# Altium integrated library Linear Technology PMIC-Switching Reg LTC1174-LTC3901.IntLib: 2647 symbols (part 190 of 310)
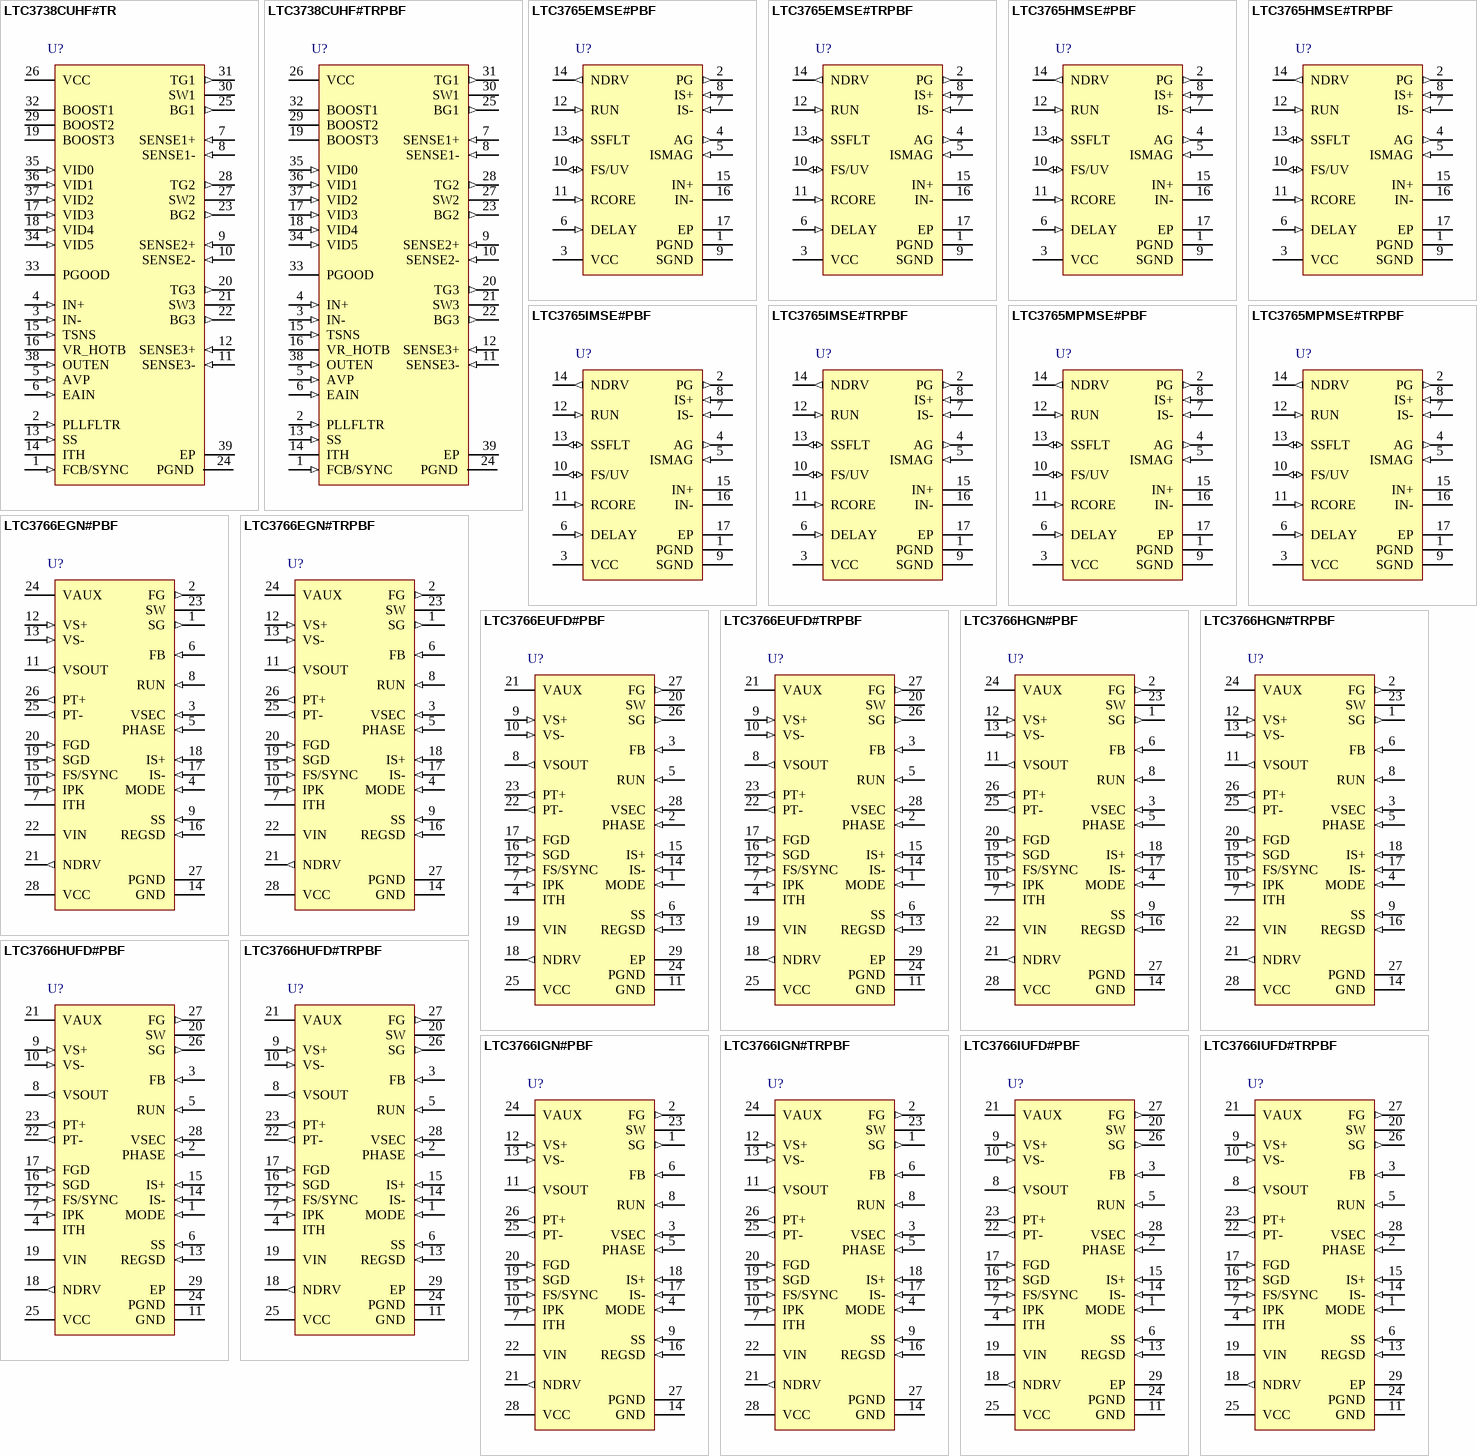
[diagram p325: symbols LTC3738CUHF#TR to LTC3766IUFD#TRPBF]

## LTC3765HMSE#TRPBF
designator U?
Active Clamp Forward Controller and Gate Driver, 16-pin SOP (MSE-16-EDP), -40 to 150 degC, Pb-Free, Tape and Reel; Manufacturer: Linear Technology; PartNumber: LTC3765HMSE#TRPBF; Number of Outputs: 1; PackageReference: MSE-16; PackageDescription: 16-Pin Plastic MSOP, Exposed Die Pad, Body 4.039 x 3 mm, Pitch 0.5 mm; Supplier 1: Digi-Key; Supplier Part Number 1: LTC3765HMSE#TRPBF-ND; RoHS: TRUE
footprint LT-MSE-16-EDP_N (SOP, 16-Leads, Body 4.1x3.1mm, Pitch 0.5mm, Thermal Pad 2.95x1.76mm, IPC Medium Density)
footprint LT-MSE-16-EDP_L (SOP, 16-Leads, Body 4.1x3.1mm, Pitch 0.5mm, Thermal Pad 2.95x1.76mm, IPC High Density)
footprint LT-MSE-16-EDP_M (SOP, 16-Leads, Body 4.1x3.1mm, Pitch 0.5mm, Thermal Pad 2.95x1.76mm, IPC Low Density)
pins: 1 PGND (power) "Power Ground. Ground return for the high current gate drivers.", 2 PG (out) "Primary Gate. Gate drive for the primary switch NMOS.", 3 VCC (power) "Main Supply Pin. A ceramic bypass capacitor should be tied between this pin and ground.", 4 AG (out) "Active Gate. Gate drive for the active clamp PMOS. This drive output is “in phase?with the PG output. Connect to the gate of a PMOS through a capacitive level-shift circuit.", 5 ISMAG (in) "Magnetizing Current Sense Pin. Connect to a current sense resistor in series with the source of the active clamp PMOS. This pin limits the magnetizing current of the main transformer to prevent core saturation when the (See Datasheet)", 6 DELAY (in) "Primary Gate Rising Delay Adjustment. A resistor from this pin to ground sets the AG rising to PG rising dead time, which is critical for optimizing efficiency.", 7 IS- (in) "Inputs to the Overcurrent Comparator. Connect across a current sense resistor in series with the source of the primary NMOS.", 8 IS+ (in) "Inputs to the Overcurrent Comparator. Connect across a current sense resistor in series with the source of the primary NMOS.", 9 SGND (power) "Signal Ground. The exposed pad metal of the package provides good thermal contact to the printed circuit board. It must be soldered to a ground plane for rated thermal performance.", 10 FS/UV (io) "Oscillator Frequency Set and Undervoltage Indicator. A resistor to ground sets the switching frequency during start-up. When the RUN pin is low, the VCC supply is undervoltage, or the overtemperature protection is active, a (See Datasheet)", 11 RCORE (in) "Transformer Core Saturation Limit. A resistor from RCORE to ground proportional to transformer core parameters internally replicates the magnetizing current slope when the primary NMOS is on. This slope in combination with (See Datasheet)", 12 RUN (in) "Run Control and Undervoltage Lockout (UVLO). Connect to a resistor divider to monitor the input voltage VIN, which is required for proper operation of the Direct Flux Limit. Converter operation is enabled for VRUN > 1.25V. (See Datasheet)", 13 SSFLT (io) "Combination Soft-Start and Fault Indicator. A capacitor to ground sets the duty cycle ramp-up rate during primary-side start-up. To indicate a fault, the SSFLT pin is momentarily pulled above 6V.", 14 NDRV (out) "Drive for External Linear Regulator. Connect to the gate of an NMOS and connect a pull-up resistor to the main input voltage, VIN. An internal charge pump drives this pin above VIN for low input voltage applications.", 15 IN+ (power) "Inputs from Pulse Transformer. Connect through a DC restoring capacitor to the output winding of a pulse transformer. The input winding of the pulse transformer is driven by the LTC3766. After performing an initial open-loop (See Datasheet)", 16 IN- (power) "Inputs from Pulse Transformer. Connect through a DC restoring capacitor to the output winding of a pulse transformer. The input winding of the pulse transformer is driven by the LTC3766. After performing an initial open-loop (See Datasheet)", 17 EP (power) "Signal Ground. The exposed pad metal of the package provides good thermal contact to the printed circuit board. It must be soldered to a ground plane for rated thermal performance."